# Altium footprint library Smartstrap_with_MAX30205.PcbLib: 21 footprints (part 1 of 2)
Each footprint in its own frame and in the unit in brackets; x right, y up, seen from the top. Pads: shape width x height; smd on the part's side, far side on the other; paste and mask are expansions set on the pad; w line width, h text height; cw(c..) or ccw(c..) is an arc to the next point about the centre after c.
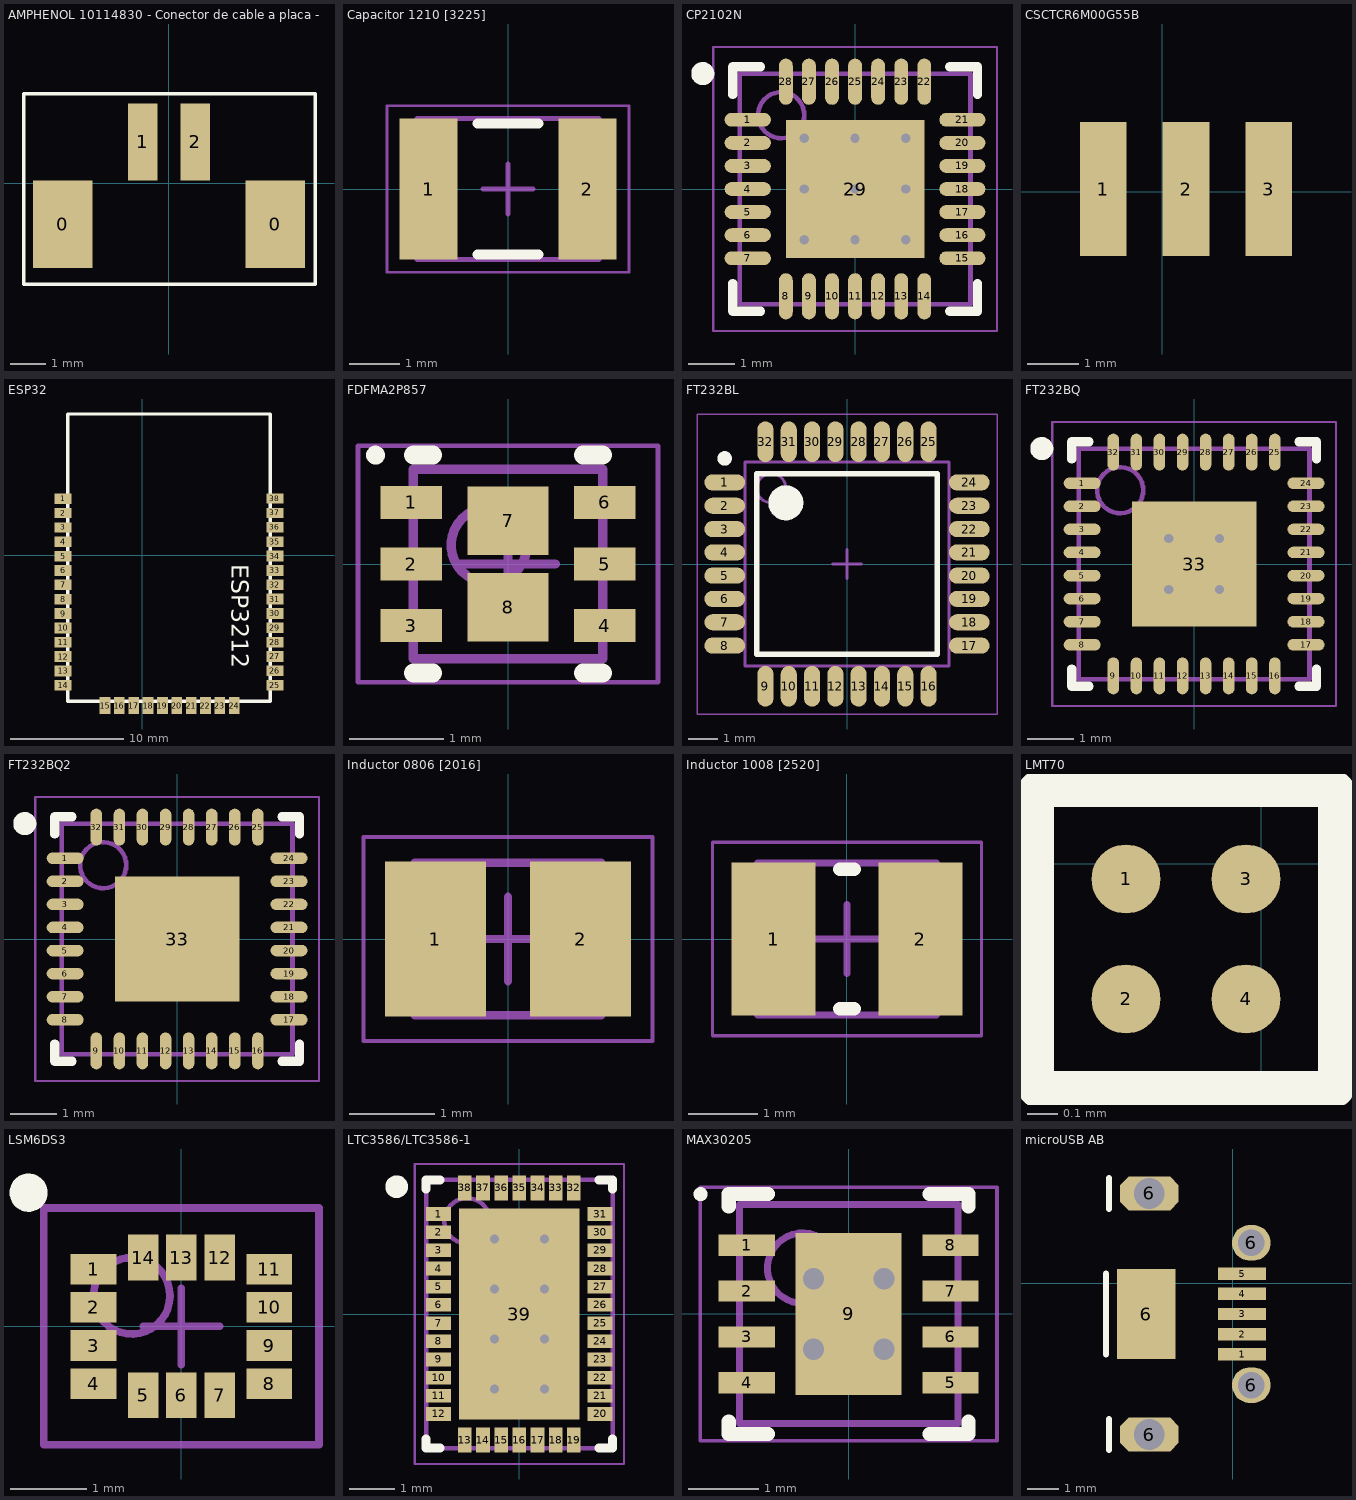
[diagram p0: the footprints below, top view; thin cyan lines are the x and y axes]

## AMPHENOL 10114830 - Conector de cable a placa - 1.25mm [mm]
pads (4):
  rect 1.7x2.5 smd: 0(-3.041,-1.18) 0(3.041,-1.18)
  rect 0.85x2.2 smd: 1(-0.748,1.18) 2(0.752,1.18)
Top Overlay:
  lines w0.1: -4.148,-2.895 4.177,-2.895 4.177,2.555 -4.148,2.555 -4.148,-2.895

## Capacitor 1210 [3225] [mm]
height 2.5
pads (2):
  rect 1.15x2.8 smd: 1(-1.575,0) 2(1.575,0)
Top Overlay:
  lines w0.2: -0.6,-1.3 0.6,-1.3 ; -0.6,1.3 0.6,1.3
Mechanical 13:
  lines w0.1: -1.8,-1.4 -1.8,1.4 1.8,1.4 1.8,-1.4 -1.8,-1.4
Mechanical 15:
  lines w0.05: -2.4,-1.65 -2.4,1.65 2.4,1.65 2.4,-1.65 -2.4,-1.65
  lines w0.1: -0.5,0 0.5,0 ; 0,-0.5 0,0.5
3D body: height 2.5, standoff 0, extent -1.5,-1.4 1.5,1.4
3D body: height 2.5, standoff 0, extent -1.8,-1.4 -1.5,1.4
3D body: height 2.5, standoff 0, extent 1.5,-1.4 1.8,1.4

## CP2102N [mm] "QFN, 28-Leads, Body 5,00x5,00mm, Pitch 0,50mm, Thermal Pad 3,25x3,25mm, IPC Medium Density"
height 0.8
pads (29):
  oval 1x0.3 smd: 1(-2.325,1.5) 2(-2.325,1) 3(-2.325,0.5) 4(-2.325,0) 5(-2.325,-0.5) 6(-2.325,-1) 7(-2.325,-1.5) 15(2.325,-1.5) 16(2.325,-1) 17(2.325,-0.5) 18(2.325,0) 19(2.325,0.5) 20(2.325,1) 21(2.325,1.5)
  oval 0.3x1 smd: 8(-1.5,-2.325) 9(-1,-2.325) 10(-0.5,-2.325) 11(0,-2.325) 12(0.5,-2.325) 13(1,-2.325) 14(1.5,-2.325) 22(1.5,2.325) 23(1,2.325) 24(0.5,2.325) 25(0,2.325) 26(-0.5,2.325) 27(-1,2.325) 28(-1.5,2.325)
  rect 3x3 smd: 29(0,0)
via 1.1,-1.1 diameter 0.5 hole 0.2
via 0,-1.1 diameter 0.5 hole 0.2
via -1.1,-1.1 diameter 0.5 hole 0.2
via 1.1,0 diameter 0.5 hole 0.2
via 0,0 diameter 0.5 hole 0.2
via -1.1,0 diameter 0.5 hole 0.2
via 1.1,1.1 diameter 0.5 hole 0.2
via 0,1.1 diameter 0.5 hole 0.2
via -1.1,1.1 diameter 0.5 hole 0.2
Top Overlay:
  circle w0.25: c-3.3,2.5 r0.125
  lines w0.2: -2.65,-2.05 -2.65,-2.65 -2.05,-2.65 ; -2.65,2.05 -2.65,2.65 -2.05,2.65 ; 2.05,-2.65 2.65,-2.65 2.65,-2.05 ; 2.05,2.65 2.65,2.65 2.65,2.05
Mechanical 13:
  circle w0.1: c-1.6,1.6 r0.5
  lines w0.1: -2.5,-2.5 2.5,-2.5 2.5,2.5 -2.5,2.5 -2.5,-2.5
Mechanical 15:
  lines w0.05: -3.075,-3.075 3.075,-3.075 3.075,3.075 -3.075,3.075 -3.075,-3.075
  lines w0.1: -0.5,0 0.5,0 ; 0,-0.5 0,0.5
3D body: height 0.8, standoff 0, extent -2.5,-2.5 2.5,2.5

## CSCTCR6M00G55B [mm]
pads (3):
  rect 0.9x2.6 smd mask+0.05: 1(-1.143,0.051) 2(0.457,0.051) 3(2.057,0.051)

## ESP32 [mm]
height 10
pads (38):
  rect 1.5x0.9 smd: 1(-7,5) 2(-7,3.73) 3(-7,2.46) 36(11.725,2.47) 37(11.725,3.74) 38(11.725,5.01)
  rect 1.5x0.95 smd: 4(-7,1.19) 5(-7,-0.08) 6(-7,-1.35) 7(-7,-2.62) 8(-7,-3.89) 9(-7,-5.16) 10(-7,-6.43) 11(-7,-7.7) 12(-7,-8.97) 13(-7,-10.24) 14(-7,-11.51) 25(11.725,-11.5) 26(11.725,-10.23) 27(11.725,-8.96) 28(11.725,-7.69) 29(11.725,-6.42) 30(11.725,-5.15) 31(11.725,-3.88) 32(11.725,-2.61) 33(11.725,-1.34) 34(11.725,-0.07) 35(11.725,1.2)
  rect 0.95x1.5 smd: 15(-3.3,-13.3) 16(-2.03,-13.3) 17(-0.76,-13.3) 18(0.51,-13.3) 19(1.78,-13.3) 20(3.05,-13.3) 21(4.32,-13.3) 22(5.59,-13.3) 23(6.86,-13.3) 24(8.13,-13.3)
Top Overlay:
  lines w0.3: 11.325,-12.91 -6.6,-12.91 -6.6,12.5 11.325,12.5 ; 11.33,-12.91 11.33,12.5
  text "ESP3212" at 7.925,-0.775 h1.52
3D body: height 2, standoff 0.2, extent -6,-12.325 8.675,5.55
3D body: height 1, standoff 0.2, extent 7.475,5.875 8.125,11.375
3D body: height 1, standoff 0.2, extent 9.25,5.875 9.9,11.375
3D body: height 1, standoff 0.2, extent 5.175,10.725 9.9,11.375
3D body: height 1, standoff 0.2, extent 5.175,7.513 5.825,11.375
3D body: height 1, standoff 0.2, extent 2.425,7.513 5.825,8.15
3D body: height 1, standoff 0.2, extent 2.425,7.513 3.075,11.375
3D body: height 1, standoff 0.2, extent -0.325,10.725 3.075,11.375
3D body: height 1, standoff 0.2, extent -0.325,7.513 0.325,11.375
3D body: height 1, standoff 0.2, extent -3.075,7.5 -2.425,11.375
3D body: height 1, standoff 0.2, extent -3.075,7.5 0.325,8.15
3D body: height 1, standoff 0.2, extent -5.825,10.725 -2.425,11.375
3D body: height 1, standoff 0.2, extent -5.825,5.875 -5.175,11.375
3D body: height 0.9, standoff 0, extent -6.625,-12.9 11.325,12.552

## FDFMA2P857 [mm] "SON, 6-Leads, Body 2,00x2,00mm, Pitch 0,65mm, Thermal Pad 1,64x0,86mm, IPC Medium Density"
height 0.8
pads (8):
  rect 0.65x0.35 smd: 1(-1.02,0.65) 2(-1.02,0) 3(-1.02,-0.65) 4(1.02,-0.65) 5(1.02,0) 6(1.02,0.65)
  rect 0.86x0.72 smd: 7(0,0.457) 8(0,-0.457)
Top Overlay:
  circle w0.1: c-1.4,1.15 r0.05
  lines w0.2: -1,-1.15 -0.795,-1.15 ; -1,1.15 -0.795,1.15 ; 0.795,-1.15 1,-1.15 ; 0.795,1.15 1,1.15
Mechanical 13:
  circle w0.1: c-0.2,0.2 r0.4
  lines w0.1: -1,-1 1,-1 1,1 -1,1 -1,-1
Mechanical 15:
  lines w0.05: -1.585,-1.25 1.585,-1.25 1.585,1.25 -1.585,1.25 -1.585,-1.25
  lines w0.1: -0.5,0 0.5,0 ; 0,-0.5 0,0.5
3D body: height 0.8, standoff 0.08, extent -1,-1 1,1

## FT232BL [mm] "TQFP, 32-Leads, Body 7,00x7,00mm, Pitch 0,80mm, IPC Medium Density"
height 1.6
pads (32):
  oval 1.4x0.55 smd: 1(-4.2,2.8) 2(-4.2,2) 3(-4.2,1.2) 4(-4.2,0.4) 5(-4.2,-0.4) 6(-4.2,-1.2) 7(-4.2,-2) 8(-4.2,-2.8) 17(4.2,-2.8) 18(4.2,-2) 19(4.2,-1.2) 20(4.2,-0.4) 21(4.2,0.4) 22(4.2,1.2) 23(4.2,2) 24(4.2,2.8)
  oval 0.55x1.4 smd: 9(-2.8,-4.2) 10(-2,-4.2) 11(-1.2,-4.2) 12(-0.4,-4.2) 13(0.4,-4.2) 14(1.2,-4.2) 15(2,-4.2) 16(2.8,-4.2) 25(2.8,4.2) 26(2,4.2) 27(1.2,4.2) 28(0.4,4.2) 29(-0.4,4.2) 30(-1.2,4.2) 31(-2,4.2) 32(-2.8,4.2)
Top Overlay:
  circle w0.25: c-4.2,3.625 r0.125
  circle w0.6: c-2.1,2.1 r0.3
  lines w0.2: -3.1,-3.1 -3.1,3.1 3.1,3.1 3.1,-3.1 -3.1,-3.1
Mechanical 13:
  circle w0.1: c-2.6,2.6 r0.5
  lines w0.1: -3.5,-3.5 -3.5,3.5 3.5,3.5 3.5,-3.5 -3.5,-3.5
Mechanical 15:
  lines w0.05: -5.15,-5.15 -5.15,5.15 5.15,5.15 5.15,-5.15 -5.15,-5.15
  lines w0.1: -0.5,0 0.5,0 ; 0,-0.5 0,0.5
3D body: height 1.6, standoff 0.25, extent -3.5,-3.5 3.5,3.5

## FT232BQ [mm] "QFN, 32-Leads, Body 5,00x5,00mm, Pitch 0,50mm, Thermal Pad 2,70x2,70mm, IPC Medium Density"
height 0.75
pads (33):
  oval 0.8x0.25 smd: 1(-2.425,1.75) 2(-2.425,1.25) 3(-2.425,0.75) 4(-2.425,0.25) 5(-2.425,-0.25) 6(-2.425,-0.75) 7(-2.425,-1.25) 8(-2.425,-1.75) 17(2.425,-1.75) 18(2.425,-1.25) 19(2.425,-0.75) 20(2.425,-0.25) 21(2.425,0.25) 22(2.425,0.75) 23(2.425,1.25) 24(2.425,1.75)
  oval 0.25x0.8 smd: 9(-1.75,-2.425) 10(-1.25,-2.425) 11(-0.75,-2.425) 12(-0.25,-2.425) 13(0.25,-2.425) 14(0.75,-2.425) 15(1.25,-2.425) 16(1.75,-2.425) 25(1.75,2.425) 26(1.25,2.425) 27(0.75,2.425) 28(0.25,2.425) 29(-0.25,2.425) 30(-0.75,2.425) 31(-1.25,2.425) 32(-1.75,2.425)
  rect 2.7x2.7 smd: 33(0,0)
via 0.55,-0.55 diameter 0.5 hole 0.2
via -0.55,-0.55 diameter 0.5 hole 0.2
via 0.55,0.55 diameter 0.5 hole 0.2
via -0.55,0.55 diameter 0.5 hole 0.2
Top Overlay:
  circle w0.25: c-3.3,2.5 r0.125
  lines w0.2: -2.65,-2.275 -2.65,-2.65 -2.275,-2.65 ; -2.65,2.275 -2.65,2.65 -2.275,2.65 ; 2.275,-2.65 2.65,-2.65 2.65,-2.275 ; 2.275,2.65 2.65,2.65 2.65,2.275
Mechanical 13:
  circle w0.1: c-1.6,1.6 r0.5
  lines w0.1: -2.5,-2.5 2.5,-2.5 2.5,2.5 -2.5,2.5 -2.5,-2.5
Mechanical 15:
  lines w0.05: -3.075,-3.075 3.075,-3.075 3.075,3.075 -3.075,3.075 -3.075,-3.075
  lines w0.1: -0.5,0 0.5,0 ; 0,-0.5 0,0.5
3D body: height 0.75, standoff 0.02, extent -2.5,-2.5 2.5,2.5

## FT232BQ2 [mm]
height 0.75
pads (33):
  oval 0.8x0.25 smd: 1(-2.425,1.75) 2(-2.425,1.25) 3(-2.425,0.75) 4(-2.425,0.25) 5(-2.425,-0.25) 6(-2.425,-0.75) 7(-2.425,-1.25) 8(-2.425,-1.75) 17(2.425,-1.75) 18(2.425,-1.25) 19(2.425,-0.75) 20(2.425,-0.25) 21(2.425,0.25) 22(2.425,0.75) 23(2.425,1.25) 24(2.425,1.75)
  oval 0.25x0.8 smd: 9(-1.75,-2.425) 10(-1.25,-2.425) 11(-0.75,-2.425) 12(-0.25,-2.425) 13(0.25,-2.425) 14(0.75,-2.425) 15(1.25,-2.425) 16(1.75,-2.425) 25(1.75,2.425) 26(1.25,2.425) 27(0.75,2.425) 28(0.25,2.425) 29(-0.25,2.425) 30(-0.75,2.425) 31(-1.25,2.425) 32(-1.75,2.425)
  rect 2.7x2.7 smd: 33(0,0)
Top Overlay:
  circle w0.25: c-3.3,2.5 r0.125
  lines w0.2: -2.65,-2.275 -2.65,-2.65 -2.275,-2.65 ; -2.65,2.275 -2.65,2.65 -2.275,2.65 ; 2.275,-2.65 2.65,-2.65 2.65,-2.275 ; 2.275,2.65 2.65,2.65 2.65,2.275
Mechanical 13:
  circle w0.1: c-1.6,1.6 r0.5
  lines w0.1: -2.5,-2.5 2.5,-2.5 2.5,2.5 -2.5,2.5 -2.5,-2.5
Mechanical 15:
  lines w0.05: -3.075,-3.075 3.075,-3.075 3.075,3.075 -3.075,3.075 -3.075,-3.075
  lines w0.1: -0.5,0 0.5,0 ; 0,-0.5 0,0.5
3D body: height 0.75, standoff 0.02, extent -2.5,-2.5 2.5,2.5

## Inductor 0806 [2016] [mm]
height 1
pads (2):
  rect 1.19x1.82 smd: 1(-0.855,0) 2(0.855,0)
Mechanical 13:
  lines w0.1: -1.1,-0.9 1.1,-0.9 1.1,0.9 -1.1,0.9 -1.1,-0.9
Mechanical 15:
  lines w0.05: -1.7,-1.2 1.7,-1.2 1.7,1.2 -1.7,1.2 -1.7,-1.2
  lines w0.1: -0.5,0 0.5,0 ; 0,-0.5 0,0.5
3D body: height 1, standoff 0, extent 0.6,-0.9 1.1,0.9
3D body: height 1, standoff 0, extent -1.1,-0.9 -0.6,0.9
3D body: height 1, standoff 0, extent -0.6,-0.9 0.6,0.9

## Inductor 1008 [2520] [mm]
height 1
pads (2):
  rect 1.22x2.22 smd: 1(-1.065,0) 2(1.065,0)
Top Overlay:
  lines w0.2: -0.1,-1.01 0.1,-1.01 ; -0.1,1.01 0.1,1.01
Mechanical 13:
  lines w0.1: -1.3,-1.1 1.3,-1.1 1.3,1.1 -1.3,1.1 -1.3,-1.1
Mechanical 15:
  lines w0.05: -1.95,-1.4 1.95,-1.4 1.95,1.4 -1.95,1.4 -1.95,-1.4
  lines w0.1: -0.5,0 0.5,0 ; 0,-0.5 0,0.5
3D body: height 1, standoff 0, extent 0.7,-1.1 1.3,1.1
3D body: height 1, standoff 0, extent -1.3,-1.1 -0.7,1.1
3D body: height 1, standoff 0, extent -0.7,-1.1 0.7,1.1

## LMT70 [mm]
pads (4):
  round 0.23 smd mask+0.05: 1(-0.45,-0.05) 2(-0.45,-0.45) 3(-0.05,-0.05) 4(-0.05,-0.45)
Top Overlay:
  lines w0.12: -0.75,-0.75 0.25,-0.75 0.25,0.25 -0.75,0.25 -0.75,-0.75
3D body: height 0.67, standoff 0.2, extent -0.75,-0.75 0.25,0.25

## LSM6DS3 [mm]
height 0.86
pads (14):
  rect 0.6x0.4 smd: 1(-1.15,0.75) 2(-1.15,0.25) 3(-1.15,-0.25) 4(-1.15,-0.75) 8(1.15,-0.75) 9(1.15,-0.25) 10(1.15,0.25) 11(1.15,0.75)
  rect 0.4x0.6 smd: 5(-0.5,-0.9) 6(0,-0.9) 7(0.5,-0.9) 12(0.5,0.9) 13(0,0.9) 14(-0.5,0.9)
Top Overlay:
  circle w0.25: c-2,1.75 r0.125
Mechanical 13:
  circle w0.1: c-0.65,0.4 r0.5
  lines w0.1: -1.8,-1.55 -1.8,1.55 1.8,1.55 1.8,-1.55 -1.8,-1.55
Mechanical 15:
  lines w0.05: -1.8,-1.55 -1.8,1.55 1.8,1.55 1.8,-1.55 -1.8,-1.55
  lines w0.1: -0.5,0 0.5,0 ; 0,-0.5 0,0.5
3D body: height 0.86, standoff 0, extent -1.55,-1.3 1.55,1.3

## LTC3586/LTC3586-1 [mm]
height 0.8
pads (39):
  rect 0.55x0.3 smd: 1(-1.775,2.2) 2(-1.775,1.8) 3(-1.775,1.4) 4(-1.775,1) 5(-1.775,0.6) 6(-1.775,0.2) 7(-1.775,-0.2) 8(-1.775,-0.6) 9(-1.775,-1) 10(-1.775,-1.4) 11(-1.775,-1.8) 12(-1.775,-2.2) 20(1.775,-2.2) 21(1.775,-1.8) 22(1.775,-1.4) 23(1.775,-1) 24(1.775,-0.6) 25(1.775,-0.2) 26(1.775,0.2) 27(1.775,0.6) 28(1.775,1) 29(1.775,1.4) 30(1.775,1.8) 31(1.775,2.2)
  rect 0.3x0.55 smd: 13(-1.2,-2.775) 14(-0.8,-2.775) 15(-0.4,-2.775) 16(0,-2.775) 17(0.4,-2.775) 18(0.8,-2.775) 19(1.2,-2.775) 32(1.2,2.775) 33(0.8,2.775) 34(0.4,2.775) 35(0,2.775) 36(-0.4,2.775) 37(-0.8,2.775) 38(-1.2,2.775)
  rect 2.65x4.65 smd: 39(0,0)
via -0.55,1.65 diameter 0.5 hole 0.2
via 0.55,1.65 diameter 0.5 hole 0.2
via -0.55,0.55 diameter 0.5 hole 0.2
via 0.55,0.55 diameter 0.5 hole 0.2
via -0.55,-0.55 diameter 0.5 hole 0.2
via 0.55,-0.55 diameter 0.5 hole 0.2
via -0.55,-1.65 diameter 0.5 hole 0.2
via 0.55,-1.65 diameter 0.5 hole 0.2
Top Overlay:
  circle w0.25: c-2.7,2.8 r0.125
  lines w0.2: -2.05,-2.75 -2.05,-2.95 -1.75,-2.95 ; -2.05,2.75 -2.05,2.95 -1.75,2.95 ; 1.75,-2.95 2.05,-2.95 2.05,-2.75 ; 1.75,2.95 2.05,2.95 2.05,2.75
Mechanical 13:
  circle w0.1: c-1.15,2.05 r0.5
  lines w0.1: -2.05,-2.95 -2.05,2.95 2.05,2.95 2.05,-2.95 -2.05,-2.95
Mechanical 15:
  lines w0.05: -2.3,-3.3 -2.3,3.3 2.3,3.3 2.3,-3.3 -2.3,-3.3
  lines w0.1: -0.5,0 0.5,0 ; 0,-0.5 0,0.5
3D body: height 0.8, standoff 0, extent -2.05,-2.95 2.05,2.95

## MAX30205 [mm] "SON, 8-Leads, Body 3,00x3,00mm, Pitch 0,65mm, Thermal Pad 2,30x1,50mm, IPC Medium Density"
height 0.8
pads (9):
  rect 0.8x0.3 smd mask+0: 1(-1.445,0.975) 2(-1.445,0.325) 3(-1.445,-0.325) 4(-1.445,-0.975) 5(1.445,-0.975) 6(1.445,-0.325) 7(1.445,0.325) 8(1.445,0.975)
  rect 1.5x2.3 smd: 9(0,0)
via 0.5,-0.5 diameter 0.5 hole 0.3
via -0.5,-0.5 diameter 0.5 hole 0.3
via 0.5,0.5 diameter 0.5 hole 0.3
via -0.5,0.5 diameter 0.5 hole 0.3
Top Overlay:
  circle w0.1: c-2.1,1.7 r0.05
  lines w0.2: -1.7,-1.525 -1.7,-1.7 -1.145,-1.7 ; -1.7,1.525 -1.7,1.7 -1.145,1.7 ; 1.145,-1.7 1.7,-1.7 1.7,-1.525 ; 1.145,1.7 1.7,1.7 1.7,1.525
Mechanical 13:
  circle w0.1: c-0.65,0.65 r0.5
  lines w0.1: -1.55,-1.55 1.55,-1.55 1.55,1.55 -1.55,1.55 -1.55,-1.55
Mechanical 15:
  lines w0.05: -2.105,-1.8 2.105,-1.8 2.105,1.8 -2.105,1.8 -2.105,-1.8
  lines w0.1: -0.5,0 0.5,0 ; 0,-0.5 0,0.5
3D body: height 0.8, standoff 0, extent -1.55,-1.55 1.55,1.55

## microUSB AB [mm]
pads (10):
  rect 1.55x0.4 smd: 1(0.3,-2.3) 2(0.3,-1.65) 3(0.3,-1) 4(0.3,-0.35) 5(0.3,0.3)
  rect 1.9x2.9 smd: 6(-2.8,-1)
  oct 1.9x1.1 hole 1: 6(-2.7,-4.9) 6(-2.7,2.9)
  oval 1.25x1.15 hole 0.85: 6(0.6,-3.3) 6(0.6,1.3)
Top Overlay:
  lines w0.2: -4.1,-2.3 -4.1,0.3 ; -4,-5.4 -4,-4.4 ; -4,2.4 -4,3.4
3D body "User Library-MicroAB.STEP": height 2.74, standoff -0.26, extent -5.46,-5.39 0.14,3.41